# EAGLE library part FMC-LPC160-UMFT601X (library samtec-fmc)
ASP-134604-01 FMC Connector, lead free, (LPC), 160 I/O, male 10 mm ASP-134606-01 FMC Connector, lead free, (LPC), 160 I/O, male 8.50 mm
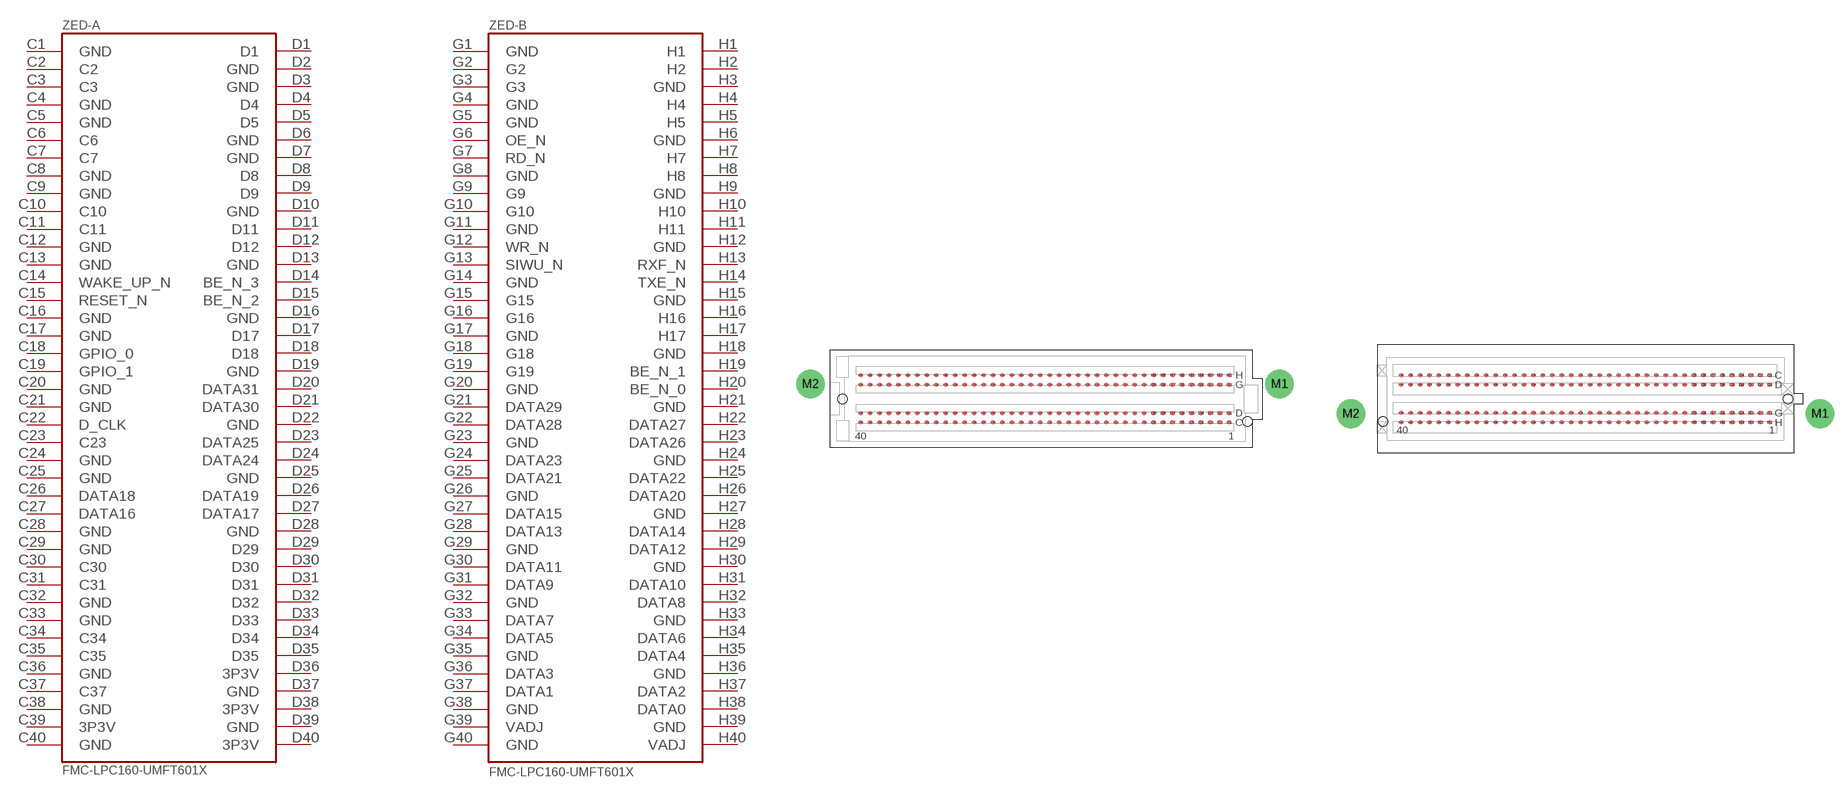
[diagram p4: symbol with the pads of ASP-134603-01; footprints ASP-134603-01, ASP-134604-01]

Designator prefix ZED; gates -A=BANK-80P-CD-UMFT601X -B=BANK-80P-GH-UMFT601X

## FMC-LPC160-UMFT601X-FEMALE  [ASP-134603-01]
C1  -A:GND
C2  -A:C2
C3  -A:C3
C4  -A:GND
C5  -A:GND
C6  -A:C6
C7  -A:C7
C8  -A:GND
C9  -A:GND
C10  -A:C10
C11  -A:C11
C12  -A:GND
C13  -A:GND
C14  -A:WAKE_UP_N
C15  -A:RESET_N
C16  -A:GND
C17  -A:GND
C18  -A:GPIO_0
C19  -A:GPIO_1
C20  -A:GND
C21  -A:GND
C22  -A:D_CLK
C23  -A:C23
C24  -A:GND
C25  -A:GND
C26  -A:DATA18
C27  -A:DATA16
C28  -A:GND
C29  -A:GND
C30  -A:C30
C31  -A:C31
C32  -A:GND
C33  -A:GND
C34  -A:C34
C35  -A:C35
C36  -A:GND
C37  -A:C37
C38  -A:GND
C39  -A:3P3V
C40  -A:GND
D1  -A:D1
D2  -A:GND
D3  -A:GND
D4  -A:D4
D5  -A:D5
D6  -A:GND
D7  -A:GND
D8  -A:D8
D9  -A:D9
D10  -A:GND
D11  -A:D11
D12  -A:D12
D13  -A:GND
D14  -A:BE_N_3
D15  -A:BE_N_2
D16  -A:GND
D17  -A:D17
D18  -A:D18
D19  -A:GND
D20  -A:DATA31
D21  -A:DATA30
D22  -A:GND
D23  -A:DATA25
D24  -A:DATA24
D25  -A:GND
D26  -A:DATA19
D27  -A:DATA17
D28  -A:GND
D29  -A:D29
D30  -A:D30
D31  -A:D31
D32  -A:D32
D33  -A:D33
D34  -A:D34
D35  -A:D35
D36  -A:3P3V
D37  -A:GND
D38  -A:3P3V
D39  -A:GND
D40  -A:3P3V
G1  -B:GND
G2  -B:G2
G3  -B:G3
G4  -B:GND
G5  -B:GND
G6  -B:OE_N
G7  -B:RD_N
G8  -B:GND
G9  -B:G9
G10  -B:G10
G11  -B:GND
G12  -B:WR_N
G13  -B:SIWU_N
G14  -B:GND
G15  -B:G15
G16  -B:G16
G17  -B:GND
G18  -B:G18
G19  -B:G19
G20  -B:GND
G21  -B:DATA29
G22  -B:DATA28
G23  -B:GND
G24  -B:DATA23
G25  -B:DATA21
G26  -B:GND
G27  -B:DATA15
G28  -B:DATA13
G29  -B:GND
G30  -B:DATA11
G31  -B:DATA9
G32  -B:GND
G33  -B:DATA7
G34  -B:DATA5
G35  -B:GND
G36  -B:DATA3
G37  -B:DATA1
G38  -B:GND
G39  -B:VADJ
G40  -B:GND
H1  -B:H1
H2  -B:H2
H3  -B:GND
H4  -B:H4
H5  -B:H5
H6  -B:GND
H7  -B:H7
H8  -B:H8
H9  -B:GND
H10  -B:H10
H11  -B:H11
H12  -B:GND
H13  -B:RXF_N
H14  -B:TXE_N
H15  -B:GND
H16  -B:H16
H17  -B:H17
H18  -B:GND
H19  -B:BE_N_1
H20  -B:BE_N_0
H21  -B:GND
H22  -B:DATA27
H23  -B:DATA26
H24  -B:GND
H25  -B:DATA22
H26  -B:DATA20
H27  -B:GND
H28  -B:DATA14
H29  -B:DATA12
H30  -B:GND
H31  -B:DATA10
H32  -B:DATA8
H33  -B:GND
H34  -B:DATA6
H35  -B:DATA4
H36  -B:GND
H37  -B:DATA2
H38  -B:DATA0
H39  -B:GND
H40  -B:VADJ

## FMC-LPC160-UMFT601X-MALE  [ASP-134604-01]
Pads as for ASP-134603-01

## Footprint ASP-134603-01 (pad centres in mm)
smd 0.635 x 0.635: C1 24.765,-3.175; C2 23.495,-3.175; C3 22.225,-3.175; C4 20.955,-3.175; C5 19.685,-3.175; C6 18.415,-3.175; C7 17.145,-3.175; C8 15.875,-3.175; C9 14.605,-3.175; C10 13.335,-3.175; C11 12.065,-3.175; C12 10.795,-3.175; C13 9.525,-3.175; C14 8.255,-3.175; C15 6.985,-3.175; C16 5.715,-3.175; C17 4.445,-3.175; C18 3.175,-3.175; C19 1.905,-3.175; C20 0.635,-3.175; C21 -0.635,-3.175; C22 -1.905,-3.175; C23 -3.175,-3.175; C24 -4.445,-3.175; C25 -5.715,-3.175; C26 -6.985,-3.175; C27 -8.255,-3.175; C28 -9.525,-3.175; C29 -10.795,-3.175; C30 -12.065,-3.175; C31 -13.335,-3.175; C32 -14.605,-3.175; C33 -15.875,-3.175; C34 -17.145,-3.175; C35 -18.415,-3.175; C36 -19.685,-3.175; C37 -20.955,-3.175; C38 -22.225,-3.175; C39 -23.495,-3.175; C40 -24.765,-3.175; D1 24.765,-1.905; D2 23.495,-1.905; D3 22.225,-1.905; D4 20.955,-1.905; D5 19.685,-1.905; D6 18.415,-1.905; D7 17.145,-1.905; D8 15.875,-1.905; D9 14.605,-1.905; D10 13.335,-1.905; D11 12.065,-1.905; D12 10.795,-1.905; D13 9.525,-1.905; D14 8.255,-1.905; D15 6.985,-1.905; D16 5.715,-1.905; D17 4.445,-1.905; D18 3.175,-1.905; D19 1.905,-1.905; D20 0.635,-1.905; D21 -0.635,-1.905; D22 -1.905,-1.905; D23 -3.175,-1.905; D24 -4.445,-1.905; D25 -5.715,-1.905; D26 -6.985,-1.905; D27 -8.255,-1.905; D28 -9.525,-1.905; D29 -10.795,-1.905; D30 -12.065,-1.905; D31 -13.335,-1.905; D32 -14.605,-1.905; D33 -15.875,-1.905; D34 -17.145,-1.905; D35 -18.415,-1.905; D36 -19.685,-1.905; D37 -20.955,-1.905; D38 -22.225,-1.905; D39 -23.495,-1.905; D40 -24.765,-1.905; G1 24.765,1.905; G2 23.495,1.905; G3 22.225,1.905; G4 20.955,1.905; G5 19.685,1.905; G6 18.415,1.905; G7 17.145,1.905; G8 15.875,1.905; G9 14.605,1.905; G10 13.335,1.905; G11 12.065,1.905; G12 10.795,1.905; G13 9.525,1.905; G14 8.255,1.905; G15 6.985,1.905; G16 5.715,1.905; G17 4.445,1.905; G18 3.175,1.905; G19 1.905,1.905; G20 0.635,1.905; G21 -0.635,1.905; G22 -1.905,1.905; G23 -3.175,1.905; G24 -4.445,1.905; G25 -5.715,1.905; G26 -6.985,1.905; G27 -8.255,1.905; G28 -9.525,1.905; G29 -10.795,1.905; G30 -12.065,1.905; G31 -13.335,1.905; G32 -14.605,1.905; G33 -15.875,1.905; G34 -17.145,1.905; G35 -18.415,1.905; G36 -19.685,1.905; G37 -20.955,1.905; G38 -22.225,1.905; G39 -23.495,1.905; G40 -24.765,1.905; H1 24.765,3.175; H2 23.495,3.175; H3 22.225,3.175; H4 20.955,3.175; H5 19.685,3.175; H6 18.415,3.175; H7 17.145,3.175; H8 15.875,3.175; H9 14.605,3.175; H10 13.335,3.175; H11 12.065,3.175; H12 10.795,3.175; H13 9.525,3.175; H14 8.255,3.175; H15 6.985,3.175; H16 5.715,3.175; H17 4.445,3.175; H18 3.175,3.175; H19 1.905,3.175; H20 0.635,3.175; H21 -0.635,3.175; H22 -1.905,3.175; H23 -3.175,3.175; H24 -4.445,3.175; H25 -5.715,3.175; H26 -6.985,3.175; H27 -8.255,3.175; H28 -9.525,3.175; H29 -10.795,3.175; H30 -12.065,3.175; H31 -13.335,3.175; H32 -14.605,3.175; H33 -15.875,3.175; H34 -17.145,3.175; H35 -18.415,3.175; H36 -19.685,3.175; H37 -20.955,3.175; H38 -22.225,3.175; H39 -23.495,3.175; H40 -24.765,3.175
drill 2.75 pad 3.85: M1 31.5,2; M2 -31.5,2
hole 1.27 at -27.191,0
hole 1.27 at 27.191,-3.048

## Footprint ASP-134604-01 (pad centres in mm)
smd 0.635 x 0.635: C1 24.765,3.175; C2 23.495,3.175; C3 22.225,3.175; C4 20.955,3.175; C5 19.685,3.175; C6 18.415,3.175; C7 17.145,3.175; C8 15.875,3.175; C9 14.605,3.175; C10 13.335,3.175; C11 12.065,3.175; C12 10.795,3.175; C13 9.525,3.175; C14 8.255,3.175; C15 6.985,3.175; C16 5.715,3.175; C17 4.445,3.175; C18 3.175,3.175; C19 1.905,3.175; C20 0.635,3.175; C21 -0.635,3.175; C22 -1.905,3.175; C23 -3.175,3.175; C24 -4.445,3.175; C25 -5.715,3.175; C26 -6.985,3.175; C27 -8.255,3.175; C28 -9.525,3.175; C29 -10.795,3.175; C30 -12.065,3.175; C31 -13.335,3.175; C32 -14.605,3.175; C33 -15.875,3.175; C34 -17.145,3.175; C35 -18.415,3.175; C36 -19.685,3.175; C37 -20.955,3.175; C38 -22.225,3.175; C39 -23.495,3.175; C40 -24.765,3.175; D1 24.765,1.905; D2 23.495,1.905; D3 22.225,1.905; D4 20.955,1.905; D5 19.685,1.905; D6 18.415,1.905; D7 17.145,1.905; D8 15.875,1.905; D9 14.605,1.905; D10 13.335,1.905; D11 12.065,1.905; D12 10.795,1.905; D13 9.525,1.905; D14 8.255,1.905; D15 6.985,1.905; D16 5.715,1.905; D17 4.445,1.905; D18 3.175,1.905; D19 1.905,1.905; D20 0.635,1.905; D21 -0.635,1.905; D22 -1.905,1.905; D23 -3.175,1.905; D24 -4.445,1.905; D25 -5.715,1.905; D26 -6.985,1.905; D27 -8.255,1.905; D28 -9.525,1.905; D29 -10.795,1.905; D30 -12.065,1.905; D31 -13.335,1.905; D32 -14.605,1.905; D33 -15.875,1.905; D34 -17.145,1.905; D35 -18.415,1.905; D36 -19.685,1.905; D37 -20.955,1.905; D38 -22.225,1.905; D39 -23.495,1.905; D40 -24.765,1.905; G1 24.765,-1.905; G2 23.495,-1.905; G3 22.225,-1.905; G4 20.955,-1.905; G5 19.685,-1.905; G6 18.415,-1.905; G7 17.145,-1.905; G8 15.875,-1.905; G9 14.605,-1.905; G10 13.335,-1.905; G11 12.065,-1.905; G12 10.795,-1.905; G13 9.525,-1.905; G14 8.255,-1.905; G15 6.985,-1.905; G16 5.715,-1.905; G17 4.445,-1.905; G18 3.175,-1.905; G19 1.905,-1.905; G20 0.635,-1.905; G21 -0.635,-1.905; G22 -1.905,-1.905; G23 -3.175,-1.905; G24 -4.445,-1.905; G25 -5.715,-1.905; G26 -6.985,-1.905; G27 -8.255,-1.905; G28 -9.525,-1.905; G29 -10.795,-1.905; G30 -12.065,-1.905; G31 -13.335,-1.905; G32 -14.605,-1.905; G33 -15.875,-1.905; G34 -17.145,-1.905; G35 -18.415,-1.905; G36 -19.685,-1.905; G37 -20.955,-1.905; G38 -22.225,-1.905; G39 -23.495,-1.905; G40 -24.765,-1.905; H1 24.765,-3.175; H2 23.495,-3.175; H3 22.225,-3.175; H4 20.955,-3.175; H5 19.685,-3.175; H6 18.415,-3.175; H7 17.145,-3.175; H8 15.875,-3.175; H9 14.605,-3.175; H10 13.335,-3.175; H11 12.065,-3.175; H12 10.795,-3.175; H13 9.525,-3.175; H14 8.255,-3.175; H15 6.985,-3.175; H16 5.715,-3.175; H17 4.445,-3.175; H18 3.175,-3.175; H19 1.905,-3.175; H20 0.635,-3.175; H21 -0.635,-3.175; H22 -1.905,-3.175; H23 -3.175,-3.175; H24 -4.445,-3.175; H25 -5.715,-3.175; H26 -6.985,-3.175; H27 -8.255,-3.175; H28 -9.525,-3.175; H29 -10.795,-3.175; H30 -12.065,-3.175; H31 -13.335,-3.175; H32 -14.605,-3.175; H33 -15.875,-3.175; H34 -17.145,-3.175; H35 -18.415,-3.175; H36 -19.685,-3.175; H37 -20.955,-3.175; H38 -22.225,-3.175; H39 -23.495,-3.175; H40 -24.765,-3.175
drill 2.75 pad 3.85: M1 31.5,-2; M2 -31.5,-2
hole 1.27 at 27.191,0
hole 1.27 at -27.191,-3.048